# EAGLE library part OSTVN06A150 (library con-Terminal)
CONN TERM BLOCK 2.54MM 6POS
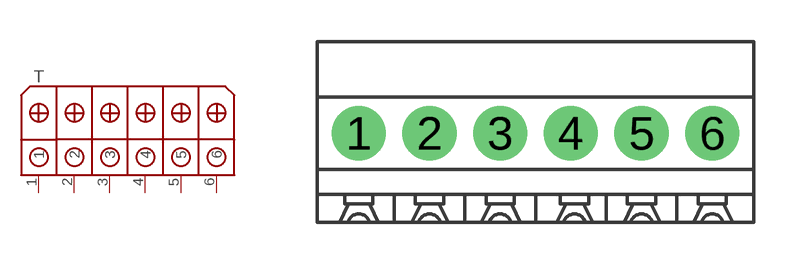
[diagram p1: symbol with the pads of OSTVN06A150; footprint OSTVN06A150]

Designator prefix T

## OSTVN06A150 (DIGIKEY: ED10565-ND; MFR: On Shore Technology; MPN: OSTVN06A150)  [OSTVN06A150]
1  1
2  2
3  3
4  4
5  5
6  6

## Footprint OSTVN06A150 (pad centres in mm)
drill 1.3: 1 -6.35,0; 2 -3.81,0; 3 -1.27,0; 4 1.27,0; 5 3.81,0; 6 6.35,0